# Altium schematic symbol library 18-Heat-Sinks 散热片.SchLib: 5 symbols
Pins are listed as number, name and electrical type; pins without a type are passive.

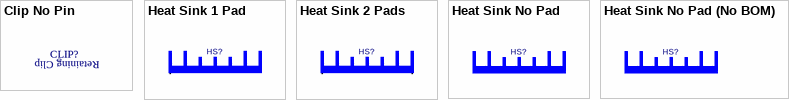
[diagram p0: symbols Clip No Pin to Heat Sink No Pad (No BOM)]

## Clip No Pin
designator CLIP?
Retaining Clip for Semiconductors
text: Retaining Clip

## Heat Sink 1 Pad
designator HS?  (value not drawn)
Heat Sink With 1 or more pad
pins: 1

## Heat Sink 2 Pads
designator HS?  (value not drawn)
Heat Sink With 2 pads
pins: 1, 2

## Heat Sink No Pad
designator HS?  (value not drawn)
Heat Sink Without Pad

## Heat Sink No Pad (No BOM)
designator HS?  (value not drawn)  (no BOM)
Heat Sink Without Pad